# Altium schematic symbol library lt-power.SchLib: 5 symbols
Pins are listed as number, name and electrical type; pins without a type are passive.

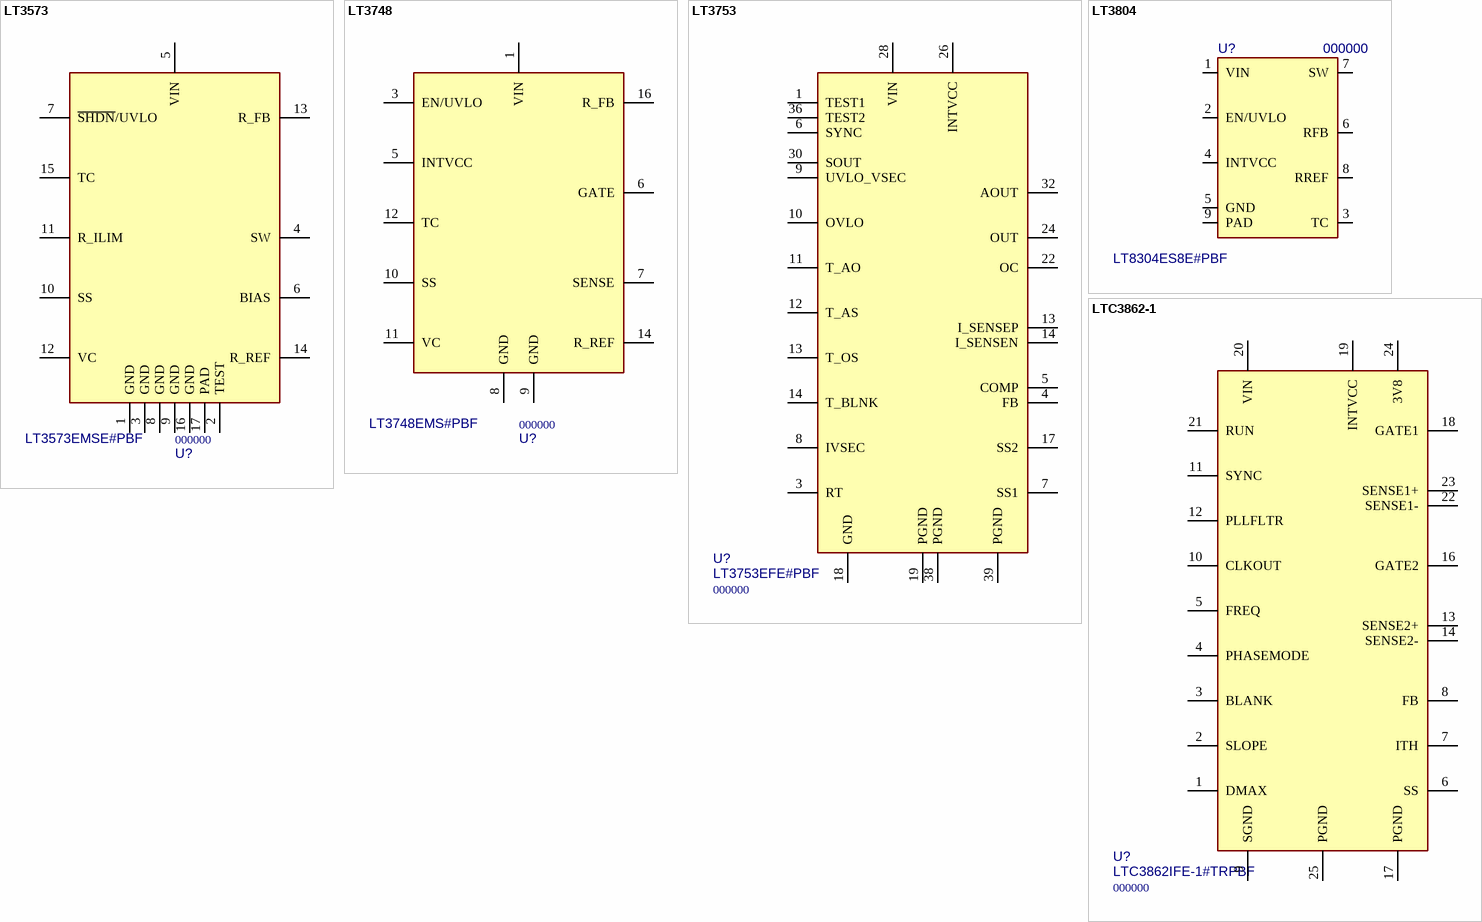
[diagram p0: symbols LT3573 to LTC3862-1]

## LT3573
designator U?, comment 000000  value LT3573EMSE#PBF
Isolated Flyback Converter  40V Input, 1.25A, 60V NPN Switch; MF: Linear Technology; PN: 000000; Package: 16-MSOP; ExtraInfo: *; MF PN: LT3573EMSE#PBF
footprint 16-MSOP (TSSOP, 16-Leads, Body 4.2x3.1mm (max), Pitch 0.50mm, IPC Medium Density)
pins: 1 GND (power), 2 TEST, 3 GND (power), 4 SW, 5 VIN (power), 6 BIAS, 7 ~{SHDN}/UVLO, 8 GND (power), 9 GND (power), 10 SS, 11 R_ILIM, 12 VC, 13 R_FB, 14 R_REF, 15 TC, 16 GND (power), 17 PAD (power)

## LT3748
designator U?, comment 000000  value LT3748EMS#PBF
100V Isolated Flyback Controller; MF: Linear Technology; PN: 000000; Package: 16-MSOP; ExtraInfo: *; MF PN: LT3748EMS#PBF
footprint MS16(12) (TSSOP, 16-Leads, Body 4.2x3.1mm (max), Pitch 0.50mm, IPC Medium Density)
pins: 1 VIN (power), 3 EN/UVLO, 5 INTVCC, 6 GATE, 7 SENSE, 8 GND (power), 9 GND (power), 10 SS, 11 VC, 12 TC, 14 R_REF, 16 R_FB

## LT3753
designator U?, comment 000000  value LT3753EFE#PBF
Active Clamp Synchronous Forward Controller; MF: Linear Technology; PN: 000000; Package: 38-TSSOP; ExtraInfo: *; MF PN: LT3753EFE#PBF; Digi-Key PN: LT3753EFE#PBF; Price: 5.53730
footprint FE38(31) (TSSOP, 38-Leads, Body 9.70x4.40mm, Pitch 0.50mm, Thermal Pad 4.80x2.80mm, IPC Medium Density)
pins: 1 TEST1, 3 RT, 4 FB, 5 COMP, 6 SYNC, 7 SS1, 8 IVSEC, 9 UVLO_VSEC, 10 OVLO, 11 T_AO, 12 T_AS, 13 T_OS, 13 I_SENSEP, 14 I_SENSEN, 14 T_BLNK, 17 SS2, 18 GND (power), 19 PGND (power), 22 OC, 24 OUT, 26 INTVCC (power), 28 VIN (power), 30 SOUT, 32 AOUT, 36 TEST2, 38 PGND (power), 39 PGND (power)

## LT3804
designator U?, comment 000000  value LT8304ES8E#PBF
100V Isolated Flyback Converter; MF: Linear Technology; PN: 000000; Package: 8-SOIC-EP; ExtraInfo: *; MF PN: LT8304ES8E#PBF; Digi-Key PN: LT8304ES8E#PBF-ND; Price: 6.42920
footprint S8E (SOP, 8-Leads, Body 5.0x4.0mm (max), Pitch 1.27mm, IPC High Density)
pins: 1 VIN (power), 2 EN/UVLO (oc), 3 TC, 4 INTVCC (power), 5 GND, 6 RFB (oc), 7 SW, 8 RREF (oc), 9 PAD (power)

## LTC3862-1
designator U?, comment 000000  value LTC3862IFE-1#TRPBF
Multi-Phase Current Mode Step-Up DC/DC Controller; MF: Linear Technology; PN: 000000; Package: 24-TSSOP; ExtraInfo: *; MF PN: LTC3862IFE-1#TRPBF
footprint 24-TSSOP (TSOP, 24-Leads, Body 7.9x4.3mm (max), Pitch 0.65mm, IPC Medium Density)
pins: 1 DMAX, 2 SLOPE, 3 BLANK, 4 PHASEMODE, 5 FREQ, 6 SS, 7 ITH, 8 FB, 9 SGND (power), 10 CLKOUT, 11 SYNC, 12 PLLFLTR, 13 SENSE2+, 14 SENSE2-, 16 GATE2, 17 PGND (power), 18 GATE1, 19 INTVCC (power), 20 VIN (power), 21 RUN, 22 SENSE1-, 23 SENSE1+, 24 3V8 (power), 25 PGND (power)